# EAGLE library part MCP4022T-103E/CH (library SnapEDA)
Digital POT
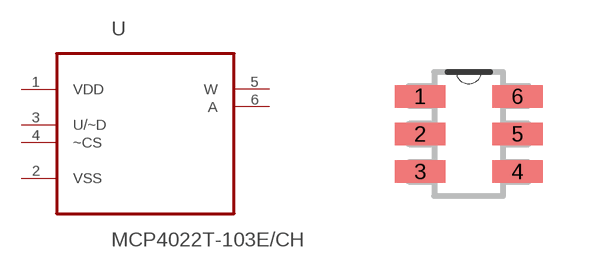
[diagram p15: symbol with the pads of SOT95P280X145-6N; footprint SOT95P280X145-6N]

Designator prefix U

## MCP4022T-103E/CH (AVAILABILITY: Good; DESCRIPTION: MCP4022 Series Non Volatile 64 Step 10 kOhm Digital Potentiometer - SOT-23-6; MF: Microchip; MP: MCP4022T-103E/CH; PACKAGE: SOT-23-6 Microchip; PRICE: 0.70 USD)  [SOT95P280X145-6N]
1  VDD  pwr
2  VSS  pwr
3  U/~D  in
4  ~CS  in
5  W  pas
6  A  pas

## Footprint SOT95P280X145-6N (pad centres in mm)
smd 1.27 x 0.559: 1 -1.219,0.94; 2 -1.219,0; 3 -1.219,-0.94; 4 1.219,-0.94; 5 1.219,0; 6 1.219,0.94